# EAGLE library part MALE-HEADER-8POS (library magic-camper-node)
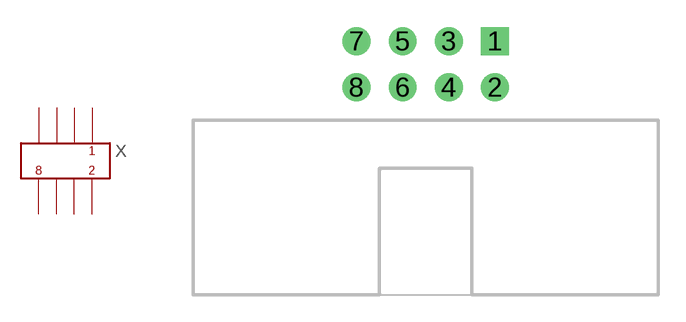
[diagram p2: symbol with the pads of 75867-132LF; footprint 75867-132LF]

Designator prefix X

## MALE-HEADER-8POS-2.54-RA-SHROUDED (PARTNO: 75867-132LF)  [75867-132LF]
1  1
2  2
3  3
4  4
5  5
6  6
7  7
8  8

## Footprint 75867-132LF (pad centres in mm)
drill 1.02 square: 1 3.81,2.54
drill 1.02 round: 2 3.81,0; 3 1.27,2.54; 4 1.27,0; 5 -1.27,2.54; 6 -1.27,0; 7 -3.81,2.54; 8 -3.81,0